# Altium schematic symbol library Schlib2.SchLib: 10 symbols
Pins are listed as number, name and electrical type; pins without a type are passive.

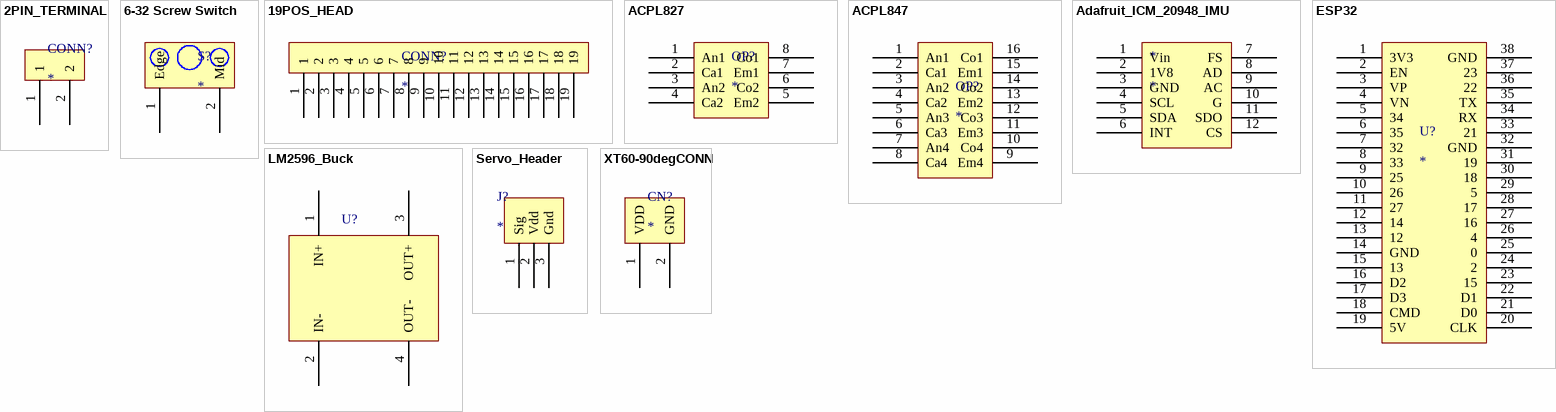
[diagram p0: symbols 2PIN_TERMINAL to XT60-90degCONN]

## 2PIN_TERMINAL
designator CONN?
footprint 2PIN_TERMINAL
pins: 1, 2

## 6-32 Screw Switch
designator S?
footprint 6-32 Screw Switch
pins: 1 Edge, 2 Mid

## 19POS_HEAD
designator CONN?
footprint 19POS_HEAD
pins: 1, 2, 3, 4, 5, 6, 7, 8, 9, 10, 11, 12, 13, 14, 15, 16, 17, 18, 19

## ACPL827
designator OP?
footprint 4PIN_DIP
pins: 1 An1, 2 Ca1, 3 An2, 4 Ca2, 5 Em2, 6 Co2, 7 Em1, 8 Co1

## ACPL847
designator OP?
footprint 8PIN_DIP (3/8 spacing)
pins: 1 An1, 2 Ca1, 3 An2, 4 Ca2, 5 An3, 6 Ca3, 7 An4, 8 Ca4, 9 Em4, 10 Co4, 11 Em3, 12 Co3, 13 Em2, 14 Co2, 15 Em1, 16 Co1

## Adafruit_ICM_20948_IMU
designator *
footprint Adafruit_ICM_20948_IMU
pins: 1 Vin, 2 1V8, 3 GND, 4 SCL, 5 SDA, 6 INT, 7 FS, 8 AD, 9 AC, 10 G, 11 SDO, 12 CS

## ESP32
designator U?
pins: 1 3V3, 2 EN, 3 VP, 4 VN, 5 34, 6 35, 7 32, 8 33, 9 25, 10 26, 11 27, 12 14, 13 12, 14 GND, 15 13, 16 D2, 17 D3, 18 CMD, 19 5V, 20 CLK, 21 D0, 22 D1, 23 15, 24 2, 25 0, 26 4, 27 16, 28 17, 29 5, 30 18, 31 19, 32 GND, 33 21, 34 RX, 35 TX, 36 22, 37 23, 38 GND

## LM2596_Buck
designator U?
buck converter breakout
footprint LM2596 Buck
pins: 1 IN+, 2 IN-, 3 OUT+, 4 OUT-

## Servo_Header
designator J?
footprint ServoHeader
pins: 1 Sig, 2 Vdd, 3 Gnd

## XT60-90degCONN
designator CN?
footprint XT60-90CONN
pins: 1 VDD, 2 GND